# Altium footprint library ArduinoNano.PcbLib: 1 footprints
Each footprint in its own frame and in the unit in brackets; x right, y up, seen from the top. Pads: shape width x height; smd on the part's side, far side on the other; paste and mask are expansions set on the pad; w line width, h text height; cw(c..) or ccw(c..) is an arc to the next point about the centre after c.
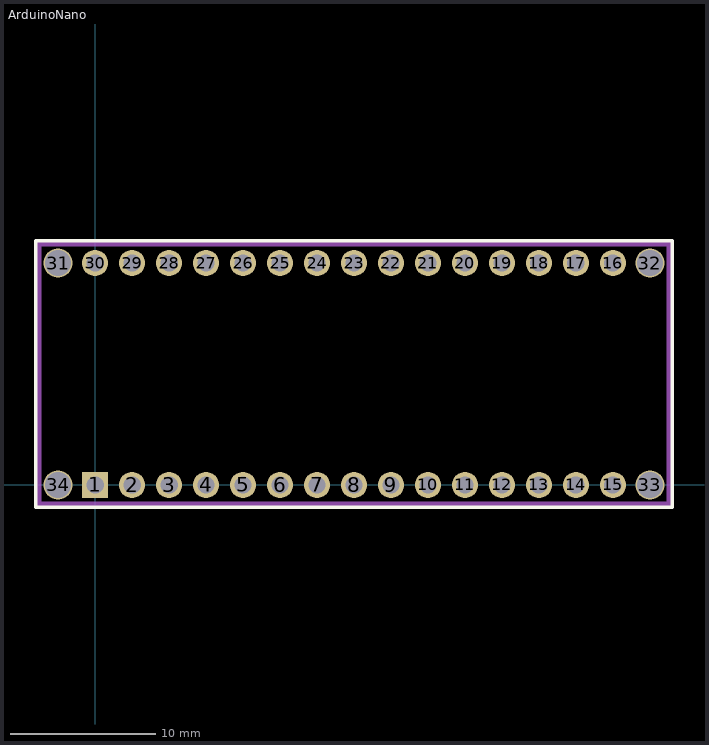
[diagram p0: the footprint, top view; thin cyan lines are the x and y axes]

## ArduinoNano [mm]
pads (34):
  rect 1.8x1.8 hole 1.2: 1(0,0)
  round 1.8 hole 1.2: 2(2.54,0) 3(5.08,0) 4(7.62,0) 5(10.16,0) 6(12.7,0) 7(15.24,0) 8(17.78,0) 9(20.32,0) 10(22.86,0) 11(25.4,0) 12(27.94,0) 13(30.48,0) 14(33.02,0) 15(35.56,0) 16(35.56,15.24) 17(33.02,15.24) 18(30.48,15.24) 19(27.94,15.24) 20(25.4,15.24) 21(22.86,15.24) 22(20.32,15.24) 23(17.78,15.24) 24(15.24,15.24) 25(12.7,15.24) 26(10.16,15.24) 27(7.62,15.24) 28(5.08,15.24) 29(2.54,15.24) 30(0,15.24)
  round 2 hole 1.778: 31(-2.54,15.24) 32(38.1,15.24) 33(38.1,0) 34(-2.54,0)
Top Overlay:
  lines w0.254: -4.064,-1.524 -4.064,16.764 39.624,16.764 39.624,-1.524 -4.064,-1.524
Mechanical 1:
  lines w0.254: -3.81,-1.27 -3.81,16.51 39.37,16.51 39.37,-1.27 -3.81,-1.27
  text ".Designator" at 17.272,9.144 h1.52
Mechanical 15:
  lines w0.254: -3.937,-1.397 -3.937,16.637 39.497,16.637 39.497,-1.397 -3.937,-1.397
3D body: height 8, standoff 4.1, extent 32.131,3.937 41.275,11.557
3D body: height 4.1, standoff 2.5, extent -3.81,-1.143 39.37,16.447